# Altium footprint library CAPMP3528X20N.PcbLib: 1 footprints
Each footprint in its own frame and in the unit in brackets; x right, y up, seen from the top. Pads: shape width x height; smd on the part's side, far side on the other; paste and mask are expansions set on the pad; w line width, h text height; cw(c..) or ccw(c..) is an arc to the next point about the centre after c.
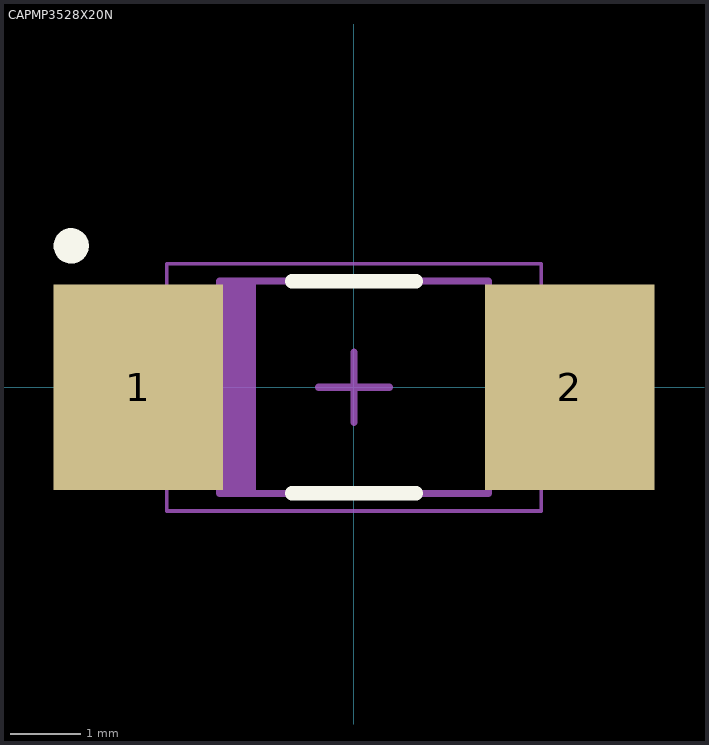
[diagram p0: the footprint, top view; thin cyan lines are the x and y axes]

## CAPMP3528X20N [mm] "Molded Capacitor, 2-Leads, Body 3,50x2,80mm, IPC Medium Density"
height 2
pads (2):
  rect 2.4x2.9 smd: 1(-3.05,0) 2(3.05,0)
Top Overlay:
  circle w0.25: c-4,2 r0.125
  lines w0.2: -0.875,-1.5 0.875,-1.5 ; -0.875,1.5 0.875,1.5
Mechanical 13:
  rectangle: -1.9,-1.5 -1.389,1.5
  lines w0.1: -1.9,-1.5 1.9,-1.5 1.9,1.5 -1.9,1.5 -1.9,-1.5
Mechanical 15:
  lines w0.05: -2.65,-1.75 2.65,-1.75 2.65,1.75 -2.65,1.75 -2.65,-1.75
  lines w0.1: -0.5,0 0.5,0 ; 0,-0.5 0,0.5
3D body: height 2, standoff 0, extent -1.9,-1.5 1.9,1.5